# EAGLE library part DEM16216 (library LCD)
DEM16216 2x16 alphabetic LCD module
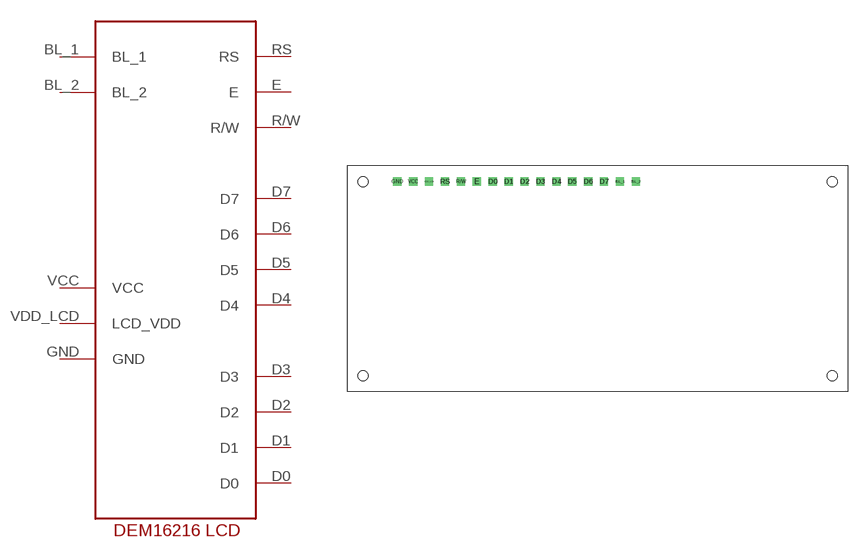
[diagram p0: symbol with the pads of DEM16216; footprint DEM16216]

Designator prefix -

## DEM16216  [DEM16216]
BL_1  BL_1
BL_2  BL_2
D0  D0
D1  D1
D2  D2
D3  D3
D4  D4
D5  D5
D6  D6
D7  D7
E  E
GND  GND
R/W  R/W
RS  RS
VCC  VCC
VDD_LCD  LCD_VDD

## Footprint DEM16216 (pad centres in mm)
DEM16216 LCD module package
drill 0.8 square: BL_1 35.56,0; BL_2 38.1,0; D0 15.24,0; D1 17.78,0; D2 20.32,0; D3 22.86,0; D4 25.4,0; D5 27.94,0; D6 30.48,0; D7 33.02,0; E 12.7,0; GND 0,0; R/W 10.16,0; RS 7.62,0; VCC 2.54,0; VDD_LCD 5.08,0
hole 1.6 at -5.5,0
hole 1.6 at 69.5,0
hole 1.6 at -5.5,-31
hole 1.6 at 69.5,-31